# Altium integrated library 晶振8M_49M-008000-FD4D14.IntLib: 1 symbol
Pins are listed as number, name and electrical type; pins without a type are passive.

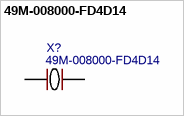
[diagram p0: symbol 49M-008000-FD4D14]

## 49M-008000-FD4D14
designator X?
BOM_Manufacturer: AKER(安碁科技); Contributor: LCSC; BOM_Supplier: LCSC; BOM_Supplier Part: C470255; BOM_Manufacturer Part: 49M-008000-FD4D14; spicePre: X; spiceSymbolName: 49M-008000-FD4D14
footprint HC-49SMD_L11.1-W4.8
pins: 1 OSC1, 2 OSC2